# EAGLE library part MAGJACK (library mylib)
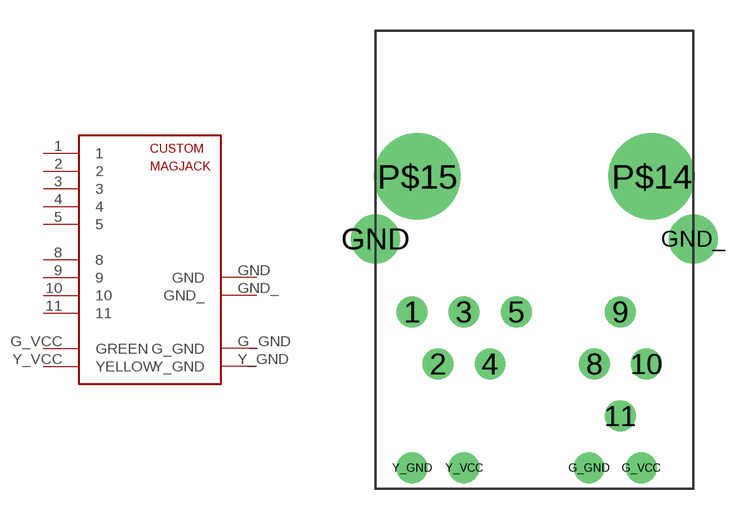
[diagram p2: symbol with the pads of MAGJACK; footprint MAGJACK]

Designator prefix -

## MAGJACK  [MAGJACK]
1  1
2  2
3  3
4  4
5  5
8  8
9  9
10  10
11  11
G_GND  G_GND
G_VCC  GREEN
GND  GND
GND_  GND_
Y_GND  Y_GND
Y_VCC  YELLOW

## Footprint MAGJACK (pad centres in mm)
drill 1 round: 1 -3.81,2.54; 2 -2.54,0; 3 -1.27,2.54; 4 0,0; 5 1.27,2.54; 8 5.08,0; 9 6.35,2.54; 10 7.62,0; 11 6.35,-2.54; G_GND 4.826,-5.08; G_VCC 7.366,-5.08; Y_GND -3.81,-5.08; Y_VCC -1.27,-5.08
drill 1.6 round: GND -5.588,6.096; GND_ 9.906,6.096
drill 3.2 round: P$14 7.874,9.144; P$15 -3.556,9.144